# EAGLE library part MCP23008 (library Skoba)
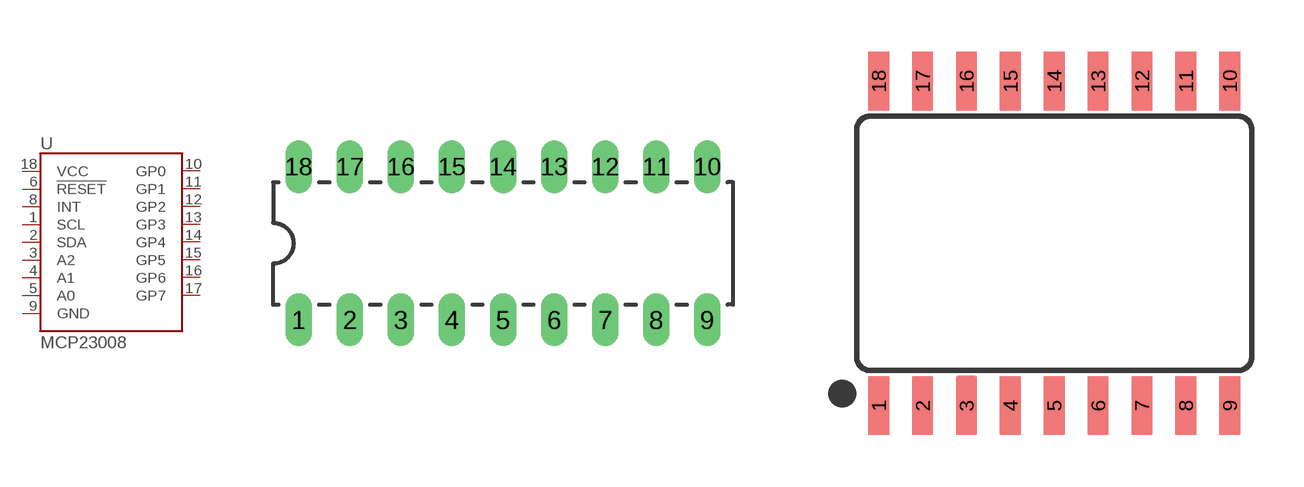
[diagram p11: symbol with the pads of DIL18; footprints DIL18, SO18W-7.5]

Designator prefix U

## MCP23008  [DIL18]
1  SCL
2  SDA
3  A2  in
4  A1  in
5  A0  in
6  !RESET  in
8  INT  out
9  GND  pwr
10  GP0
11  GP1
12  GP2
13  GP3
14  GP4
15  GP5
16  GP6
17  GP7
18  VCC  pwr

## MCP23008SO (PARTNO: MCP23008T-E/SO)  [SO18W-7.5]
Pads as for DIL18

## Footprint DIL18 (pad centres in mm)
Dual In Line Package
drill 0.813 long: 1 -10.16,-3.81; 2 -7.62,-3.81; 3 -5.08,-3.81; 4 -2.54,-3.81; 5 0,-3.81; 6 2.54,-3.81; 7 5.08,-3.81; 8 7.62,-3.81; 9 10.16,-3.81; 10 10.16,3.81; 11 7.62,3.81; 12 5.08,3.81; 13 2.54,3.81; 14 0,3.81; 15 -2.54,3.81; 16 -5.08,3.81; 17 -7.62,3.81; 18 -10.16,3.81

## Footprint SO18W-7.5 (pad centres in mm)
smd 0.6 x 1.7: 1 -4.445,-4.7; 2 -3.175,-4.7; 3 -1.905,-4.7; 4 -0.635,-4.7; 5 0.635,-4.7; 6 1.905,-4.7; 7 3.175,-4.7; 8 4.445,-4.7; 9 5.715,-4.7; 10 5.715,4.7; 11 4.445,4.7; 12 3.175,4.7; 13 1.905,4.7; 14 0.635,4.7; 15 -0.635,4.7; 16 -1.905,4.7; 17 -3.175,4.7; 18 -4.445,4.7